# EAGLE library part SMD_ISP_0015912060 (library molex)
Digikey PN WM17449-ND
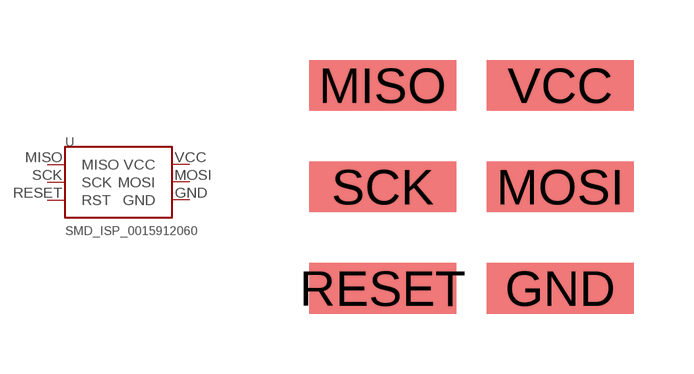
[diagram p91: symbol with the pads of 0015912060; footprint 0015912060]

Designator prefix -

## SMD_ISP_0015912060  [0015912060]
GND  GND
MISO  MISO
MOSI  MOSI
RESET  RST
SCK  SCK
VCC  VCC

## Footprint 0015912060 (pad centres in mm)
smd 3.68 x 1.27: GND 2.22,-2.54; MISO -2.22,2.54; MOSI 2.22,0; RESET -2.22,-2.54; SCK -2.22,0; VCC 2.22,2.54